# EAGLE library part AD8306ARZ (library MSA_lib)
High Precision Limiting-Logarithmic Amplifier
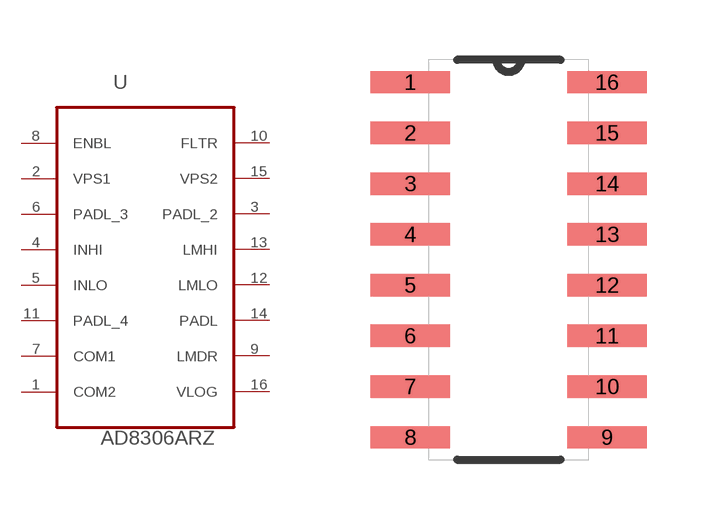
[diagram p10: symbol with the pads of SOIC16; footprint SOIC16]

Designator prefix U

## AD8306ARZ (MPN: AD8306ARZ; OC_FARNELL: 1814350; OC_NEWARK: 59K6558; PACKAGE: SOIC-16; SUPPLIER: Analog Devices)  [SOIC16]
1  COM2  pas
2  VPS1  pwr
3  PADL_2  pas
4  INHI  in
5  INLO  in
6  PADL_3  pas
7  COM1  pas
8  ENBL  in
9  LMDR  pas
10  FLTR  pas
11  PADL_4  pas
12  LMLO  out
13  LMHI  out
14  PADL  pas
15  VPS2  pwr
16  VLOG  out

## Footprint SOIC16 (pad centres in mm)
smd 1.981 x 0.559: 1 -2.464,4.445; 2 -2.464,3.175; 3 -2.464,1.905; 4 -2.464,0.635; 5 -2.464,-0.635; 6 -2.464,-1.905; 7 -2.464,-3.175; 8 -2.464,-4.445; 9 2.464,-4.445; 10 2.464,-3.175; 11 2.464,-1.905; 12 2.464,-0.635; 13 2.464,0.635; 14 2.464,1.905; 15 2.464,3.175; 16 2.464,4.445